# Altium footprint library SMARC.PcbLib: 1 footprints
Each footprint in its own frame and in the unit in brackets; x right, y up, seen from the top. Pads: shape width x height; smd on the part's side, far side on the other; paste and mask are expansions set on the pad; w line width, h text height; cw(c..) or ccw(c..) is an arc to the next point about the centre after c.
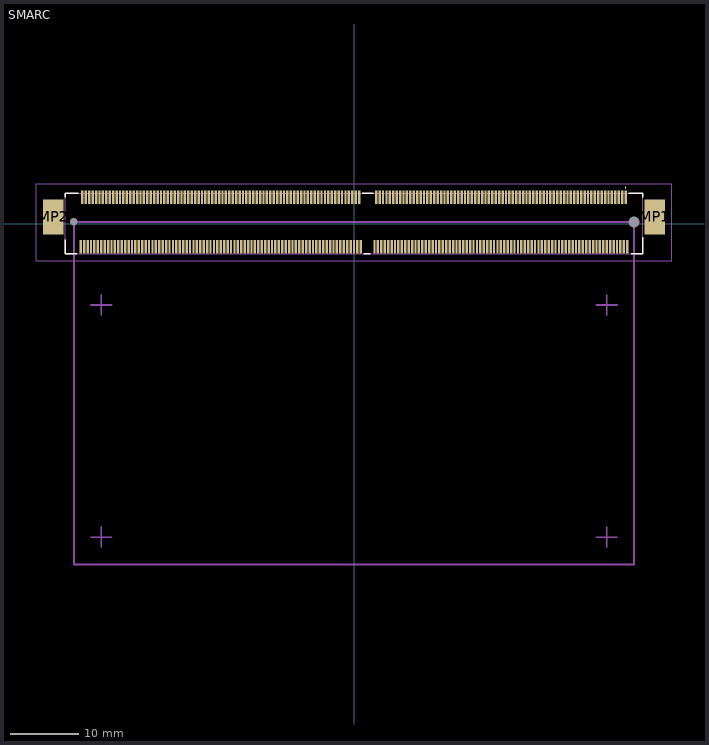
[diagram p0: the footprint, top view; thin cyan lines are the x and y axes]

## SMARC [mm]
pads (318):
  round 0.8 hole 1.6 unplated: MH1(41,0.225)
  round 0.55 hole 1.1 unplated: MH2(-41,0.225)
  rect 3x5.15 smd: MP1(44,0.975) MP2(-44,0.975)
  rect 0.35x2 smd: P1(39.75,3.85) P2(39.25,3.85) P3(38.75,3.85) P4(38.25,3.85) P5(37.75,3.85) P6(37.25,3.85) P7(36.75,3.85) P8(36.25,3.85) P9(35.75,3.85) P10(35.25,3.85) P11(34.75,3.85) P12(34.25,3.85) P13(33.75,3.85) P14(33.25,3.85) P15(32.75,3.85) P16(32.25,3.85) P17(31.75,3.85) P18(31.25,3.85) P19(30.75,3.85) P20(30.25,3.85) P21(29.75,3.85) P22(29.25,3.85) P23(28.75,3.85) P24(28.25,3.85) P25(27.75,3.85) P26(27.25,3.85) P27(26.75,3.85) P28(26.25,3.85) P29(25.75,3.85) P30(25.25,3.85) P31(24.75,3.85) P32(24.25,3.85) P33(23.75,3.85) P34(23.25,3.85) P35(22.75,3.85) P36(22.25,3.85) P37(21.75,3.85) P38(21.25,3.85) P39(20.75,3.85) P40(20.25,3.85) P41(19.75,3.85) P42(19.25,3.85) P43(18.75,3.85) P44(18.25,3.85) P45(17.75,3.85) P46(17.25,3.85) P47(16.75,3.85) P48(16.25,3.85) P49(15.75,3.85) P50(15.25,3.85) P51(14.75,3.85) P52(14.25,3.85) P53(13.75,3.85) P54(13.25,3.85) P55(12.75,3.85) P56(12.25,3.85) P57(11.75,3.85) P58(11.25,3.85) P59(10.75,3.85) P60(10.25,3.85) P61(9.75,3.85) P62(9.25,3.85) P63(8.75,3.85) P64(8.25,3.85) P65(7.75,3.85) P66(7.25,3.85) P67(6.75,3.85) P68(6.25,3.85) P69(5.75,3.85) P70(5.25,3.85) P71(4.75,3.85) P72(4.25,3.85) P73(3.75,3.85) P74(3.25,3.85) P75(0.75,3.85) P76(0.25,3.85) P77(-0.25,3.85) P78(-0.75,3.85) P79(-1.25,3.85) P80(-1.75,3.85) P81(-2.25,3.85) P82(-2.75,3.85) P83(-3.25,3.85) P84(-3.75,3.85) P85(-4.25,3.85) P86(-4.75,3.85) P87(-5.25,3.85) P88(-5.75,3.85) P89(-6.25,3.85) P90(-6.75,3.85) P91(-7.25,3.85) P92(-7.75,3.85) P93(-8.25,3.85) P94(-8.75,3.85) P95(-9.25,3.85) P96(-9.75,3.85) P97(-10.25,3.85) P98(-10.75,3.85) P99(-11.25,3.85) P100(-11.75,3.85) P101(-12.25,3.85) P102(-12.75,3.85) P103(-13.25,3.85) P104(-13.75,3.85) P105(-14.25,3.85) P106(-14.75,3.85) P107(-15.25,3.85) P108(-15.75,3.85) P109(-16.25,3.85) P110(-16.75,3.85) P111(-17.25,3.85) P112(-17.75,3.85) P113(-18.25,3.85) P114(-18.75,3.85) P115(-19.25,3.85) P116(-19.75,3.85) P117(-20.25,3.85) P118(-20.75,3.85) P119(-21.25,3.85) P120(-21.75,3.85) P121(-22.25,3.85) P122(-22.75,3.85) P123(-23.25,3.85) P124(-23.75,3.85) P125(-24.25,3.85) P126(-24.75,3.85) P127(-25.25,3.85) P128(-25.75,3.85) P129(-26.25,3.85) P130(-26.75,3.85) P131(-27.25,3.85) P132(-27.75,3.85) P133(-28.25,3.85) P134(-28.75,3.85) P135(-29.25,3.85) P136(-29.75,3.85) P137(-30.25,3.85) P138(-30.75,3.85) P139(-31.25,3.85) P140(-31.75,3.85) P141(-32.25,3.85) P142(-32.75,3.85) P143(-33.25,3.85) P144(-33.75,3.85) P145(-34.25,3.85) P146(-34.75,3.85) P147(-35.25,3.85) P148(-35.75,3.85) P149(-36.25,3.85) P150(-36.75,3.85) P151(-37.25,3.85) P152(-37.75,3.85) P153(-38.25,3.85) P154(-38.75,3.85) P155(-39.25,3.85) P156(-39.75,3.85) S1(40,-3.4) S2(39.5,-3.4) S3(39,-3.4) S4(38.5,-3.4) S5(38,-3.4) S6(37.5,-3.4) S7(37,-3.4) S8(36.5,-3.4) S9(36,-3.4) S10(35.5,-3.4) S11(35,-3.4) S12(34.5,-3.4) S13(34,-3.4) S14(33.5,-3.4) S15(33,-3.4) S16(32.5,-3.4) S17(32,-3.4) S18(31.5,-3.4) S19(31,-3.4) S20(30.5,-3.4) S21(30,-3.4) S22(29.5,-3.4) S23(29,-3.4) S24(28.5,-3.4) S25(28,-3.4) S26(27.5,-3.4) S27(27,-3.4) S28(26.5,-3.4) S29(26,-3.4) S30(25.5,-3.4) S31(25,-3.4) S32(24.5,-3.4) S33(24,-3.4) S34(23.5,-3.4) S35(23,-3.4) S36(22.5,-3.4) S37(22,-3.4) S38(21.5,-3.4) S39(21,-3.4) S40(20.5,-3.4) S41(20,-3.4) S42(19.5,-3.4) S43(19,-3.4) S44(18.5,-3.4) S45(18,-3.4) S46(17.5,-3.4) S47(17,-3.4) S48(16.5,-3.4) S49(16,-3.4) S50(15.5,-3.4) S51(15,-3.4) S52(14.5,-3.4) S53(14,-3.4) S54(13.5,-3.4) S55(13,-3.4) S56(12.5,-3.4) S57(12,-3.4) S58(11.5,-3.4) S59(11,-3.4) S60(10.5,-3.4) S61(10,-3.4) S62(9.5,-3.4) S63(9,-3.4) S64(8.5,-3.4) S65(8,-3.4) S66(7.5,-3.4) S67(7,-3.4) S68(6.5,-3.4) S69(6,-3.4) S70(5.5,-3.4) S71(5,-3.4) S72(4.5,-3.4) S73(4,-3.4) S74(3.5,-3.4) S75(3,-3.4) S76(1,-3.4) S77(0.5,-3.4) S78(0,-3.4) S79(-0.5,-3.4) S80(-1,-3.4) S81(-1.5,-3.4) S82(-2,-3.4) S83(-2.5,-3.4) S84(-3,-3.4) S85(-3.5,-3.4) S86(-4,-3.4) S87(-4.5,-3.4) S88(-5,-3.4) S89(-5.5,-3.4) S90(-6,-3.4) S91(-6.5,-3.4) S92(-7,-3.4) S93(-7.5,-3.4) S94(-8,-3.4) S95(-8.5,-3.4) S96(-9,-3.4) S97(-9.5,-3.4) S98(-10,-3.4) S99(-10.5,-3.4) S100(-11,-3.4) S101(-11.5,-3.4) S102(-12,-3.4) S103(-12.5,-3.4) S104(-13,-3.4) S105(-13.5,-3.4) S106(-14,-3.4) S107(-14.5,-3.4) S108(-15,-3.4) S109(-15.5,-3.4) S110(-16,-3.4) S111(-16.5,-3.4) S112(-17,-3.4) S113(-17.5,-3.4) S114(-18,-3.4) S115(-18.5,-3.4) S116(-19,-3.4) S117(-19.5,-3.4) S118(-20,-3.4) S119(-20.5,-3.4) S120(-21,-3.4) S121(-21.5,-3.4) S122(-22,-3.4) S123(-22.5,-3.4) S124(-23,-3.4) S125(-23.5,-3.4) S126(-24,-3.4) S127(-24.5,-3.4) S128(-25,-3.4) S129(-25.5,-3.4) S130(-26,-3.4) S131(-26.5,-3.4) S132(-27,-3.4) S133(-27.5,-3.4) S134(-28,-3.4) S135(-28.5,-3.4) S136(-29,-3.4) S137(-29.5,-3.4) S138(-30,-3.4) S139(-30.5,-3.4) S140(-31,-3.4) S141(-31.5,-3.4) S142(-32,-3.4) S143(-32.5,-3.4) S144(-33,-3.4) S145(-33.5,-3.4) S146(-34,-3.4) S147(-34.5,-3.4) S148(-35,-3.4) S149(-35.5,-3.4) S150(-36,-3.4) S151(-36.5,-3.4) S152(-37,-3.4) S153(-37.5,-3.4) S154(-38,-3.4) S155(-38.5,-3.4) S156(-39,-3.4) S157(-39.5,-3.4) S158(-40,-3.4)
Top Overlay:
  lines w0.1: 39.75,5.2 cw(c39.75,5.25) 39.75,5.3 cw(c39.75,5.25) 39.75,5.2
  lines w0.2: -42.3,-2.4 -42.3,-4.425 -40.6,-4.425 ; -42.3,3.85 -42.3,4.425 -40.4,4.425 ; 1.2,4.425 2.8,4.425 ; 1.4,-4.425 2.4,-4.425 ; 40.2,4.425 42.3,4.425 42.3,3.85 ; 40.6,-4.425 42.3,-4.425 42.3,-2
Design Notes:
  lines w0.254: -38.5,-45.905 -37,-45.905 ; -38.5,-11.938 -37,-11.938 ; -37,-47.405 -37,-45.905 ; -37,-44.405 -37,-45.905 ; -37,-13.438 -37,-11.938 ; -37,-10.438 -37,-11.938 ; -35.5,-45.905 -37,-45.905 ; -35.5,-11.938 -37,-11.938 ; 35.5,-45.905 37,-45.905 ; 35.5,-11.938 37,-11.938 ; 37,-47.405 37,-45.905 ; 37,-44.405 37,-45.905 ; 37,-13.438 37,-11.938 ; 37,-10.438 37,-11.938 ; 38.5,-45.905 37,-45.905 ; 38.5,-11.938 37,-11.938 ; -41,-49.905 41,-49.905 41,0.225 -41,0.225 -41,-49.905
Top 3D Body:
  lines w0.1: -42.3,-4.425 -42.3,4.425 42.3,4.425 42.3,-4.425 -42.3,-4.425
Top Courtyard:
  lines w0.1: -46.5,-5.425 -46.5,5.85 46.5,5.85 46.5,-5.425 -46.5,-5.425
3D body "10151114-001TLF.stp": height 7.83, standoff -0.52, extent -44.03,-4.21 44.03,4.64